# EAGLE library part BORNE-3-500-WAGO-2604-3103 (library JLB6_Connec)
Borne Wago a ressort entree verticale 3 voies pas 5.0mm
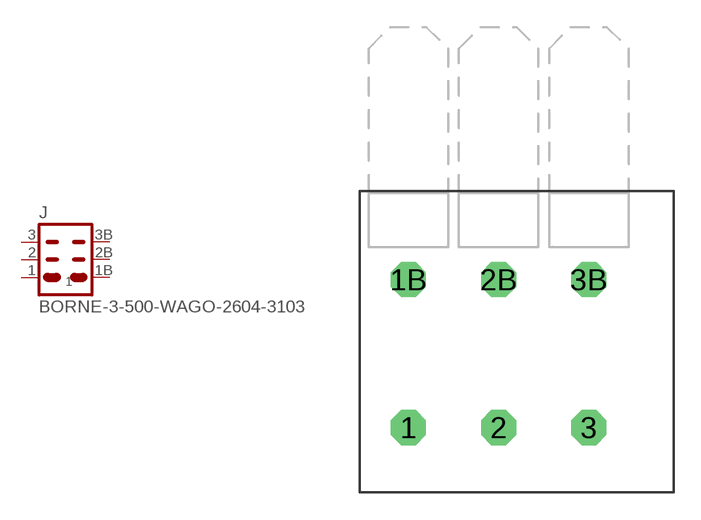
[diagram p71: symbol with the pads of BORNE-WAGO-3-500-TOP; footprint BORNE-WAGO-3-500-TOP]

Designator prefix J

## BORNE-3-500-WAGO-2604-3103  [BORNE-WAGO-3-500-TOP]
1  1  pas
1B  1B  pas
2  2  pas
2B  2B  pas
3  3  pas
3B  3B  pas

## Footprint BORNE-WAGO-3-500-TOP (pad centres in mm)
drill 1.3 octagon: 1 -5,-4; 1B -5,4.2; 2 0,-4; 2B 0,4.2; 3 5,-4; 3B 5,4.2